# Altium footprint library PcbLib1 (3).PcbLib: 17 footprints (part 2 of 2)
Each footprint in its own frame and in the unit in brackets; x right, y up, seen from the top. Pads: shape width x height; smd on the part's side, far side on the other; paste and mask are expansions set on the pad; w line width, h text height; cw(c..) or ccw(c..) is an arc to the next point about the centre after c.
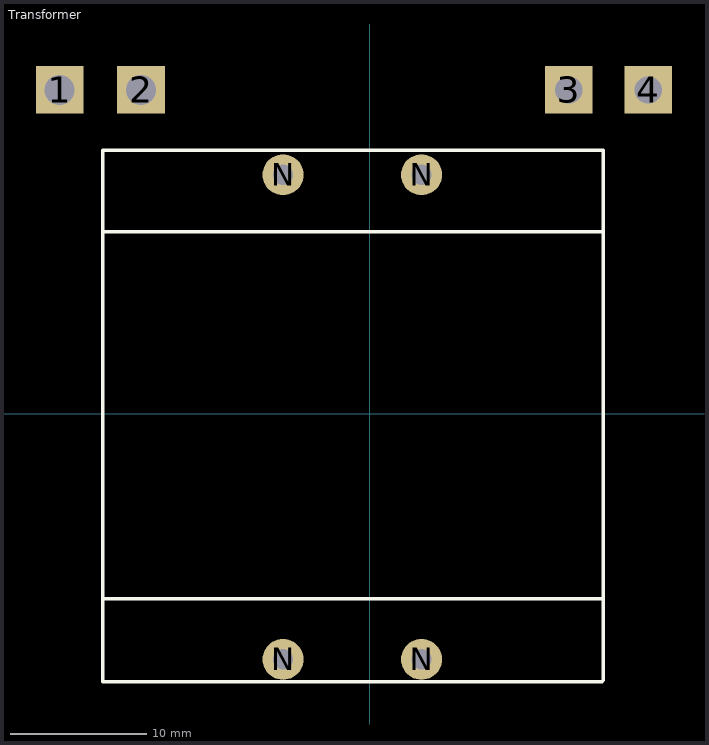
[diagram p1: the footprint, top view; thin cyan lines are the x and y axes]

## Transformer [mm]
pads (8):
  rect 3.5x3.5 hole 2.2: 1(-22.733,23.746) 2(-16.764,23.746)
  rect 3.5x3.5 hole 2: 3(14.605,23.746) 4(20.447,23.746)
  round 3 hole 1.5: N(-6.35,-18.027) N(-6.35,17.519) N(3.81,-18.027) N(3.81,17.519)
Top Overlay:
  lines w0.254: -19.558,-13.589 17.018,-13.589 ; -19.558,13.335 17.145,13.335 ; -19.558,-19.685 -19.558,19.304 17.145,19.304 17.145,-19.558 17.018,-19.685 -19.558,-19.685